# Altium footprint library inductor-nkl.PCBLIB: 59 footprints (part 3 of 4)
Each footprint in its own frame and in the unit in brackets; x right, y up, seen from the top. Pads: shape width x height; smd on the part's side, far side on the other; paste and mask are expansions set on the pad; w line width, h text height; cw(c..) or ccw(c..) is an arc to the next point about the centre after c.
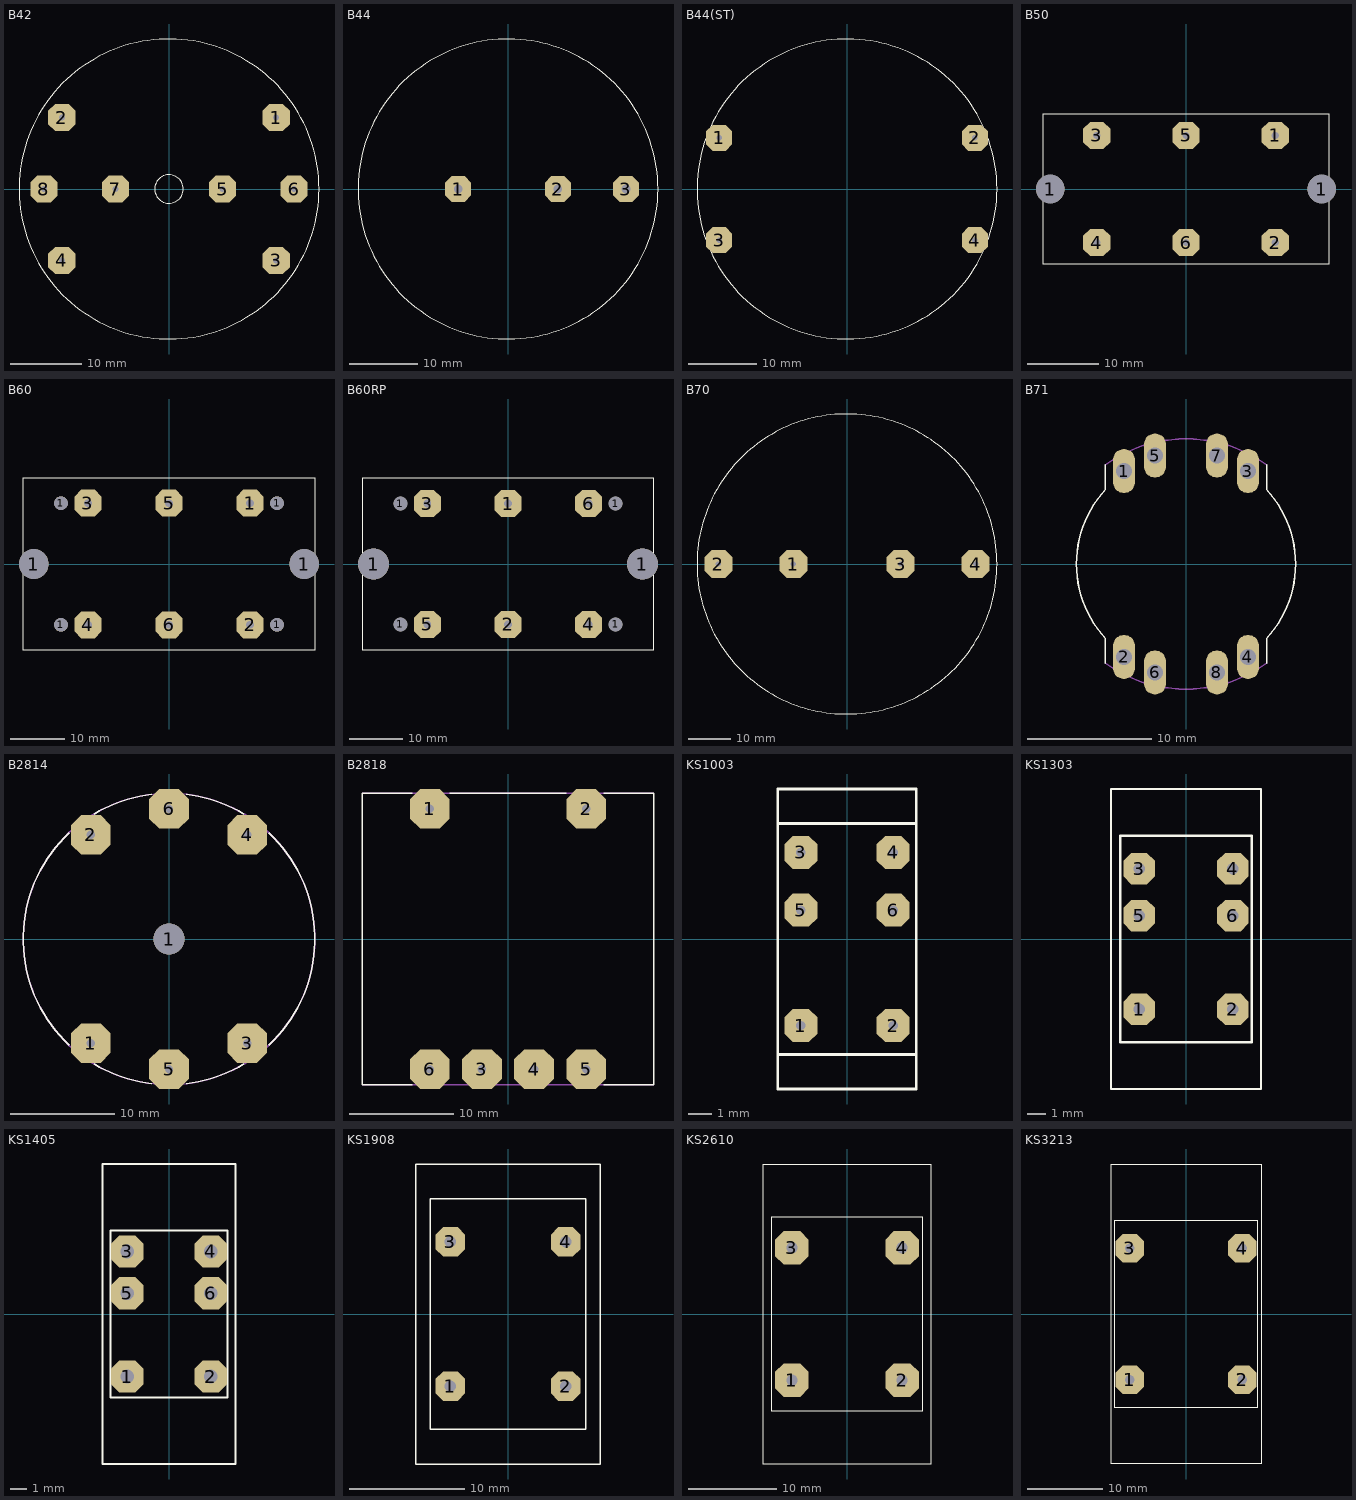
[diagram p2: the footprints below, top view; thin cyan lines are the x and y axes]

## B42 [mil]
pads (8):
  oct 150x150 hole 32: 1(590.55,393.7) 2(-590.55,393.7) 3(590.55,-393.7) 4(-590.55,-393.7) 5(295.28,0) 6(688.98,0) 7(-295.28,0) 8(-688.98,0)
Top Overlay:
  circle w5: c0,0 r826.77
  circle w5: c0,0 r78.74

## B44 [mil]
pads (3):
  oct 150x150 hole 50: 1(-287.4,0) 2(287.4,0) 3(681.1,0)
Top Overlay:
  circle w5: c0,0 r866.14

## B44(ST) [mil]
pads (4):
  oct 150x150 hole 32: 1(-738.19,295.28) 2(738.19,295.28) 3(-738.19,-295.28) 4(738.19,-295.28)
Top Overlay:
  circle w5: c0,0 r866.14

## B50 [mil]
pads (8):
  round 157.48 hole 157.48: 1(-748.03,0) 1(748.03,0)
  oct 150x150 hole 40: 1(492.13,295.28) 2(492.13,-295.28) 3(-492.13,295.28) 4(-492.13,-295.28) 5(0,295.28) 6(0,-295.28)
Top Overlay:
  lines w5: -787.4,-413.39 787.4,-413.39 787.4,413.39 -787.4,413.39 -787.4,-413.39

## B60 [mm]
pads (12):
  round 5.5 hole 5.5: 1(-25,0) 1(25,0)
  round 2.54 hole 2.54: 1(-20,-11.25) 1(-20,11.25) 1(20,-11.25) 1(20,11.25)
  oct 5x5 hole 1.422: 1(15,11.25) 2(15,-11.25) 3(-15,11.25) 4(-15,-11.25) 5(0,11.25) 6(0,-11.25)
Top Overlay:
  lines w0.127: -27,-16 27,-16 27,16 -27,16 -27,-16

## B60RP [mm]
pads (12):
  round 5.8 hole 5.8: 1(-25,0) 1(25,0)
  round 2.54 hole 2.54: 1(-20,-11.25) 1(-20,11.25) 1(20,-11.25) 1(20,11.25)
  oct 5x5 hole 1.422: 1(0,11.25) 2(0,-11.25) 3(-15,11.25) 4(15,-11.25) 5(-15,-11.25) 6(15,11.25)
Top Overlay:
  lines w0.127: -27,-16 27,-16 27,16 -27,16 -27,-16

## B70 [mil]
pads (4):
  oct 254x254 hole 50: 1(-492.13,0) 2(-1181.1,0) 3(492.13,0) 4(1181.1,0)
Top Overlay:
  circle w5: c0,0 r1377.95

## B71 [mil]
pads (8):
  oval 70x140 hole 50: 1(-196.85,295.28) 2(-196.85,-295.28) 3(196.85,295.28) 4(196.85,-295.28) 5(-98.43,344.49) 6(-98.43,-344.49) 7(98.43,344.49) 8(98.43,-344.49)
Top Overlay:
  lines w5: -255.91,-314.96 -255.91,-236.22 cw(c-0.01,0) -255.91,236.22 -255.91,314.96 ; 255.91,-314.96 255.91,-236.22 ccw(c0.01,0) 255.91,236.22 255.91,314.96
Mechanical 16:
  lines w5: -255.91,-314.96 ccw(c0,39.38) 255.91,-314.96 ; -255.91,314.96 cw(c0,-39.38) 255.91,314.96

## B2814 [mil]
pads (7):
  oct 150x150 hole 32: 1(-295.28,-393.7) 2(-295.28,393.7) 3(295.28,-393.7) 4(295.28,393.7) 5(0,-492.13) 6(0,492.13)
  round 118.11 hole 118.11: 1(0,0)
Top Overlay:
  lines w5: -377.95,-401.57 cw(c0,0) -377.95,401.57 ; -283.46,-472.44 ccw(c0.32,-0.01) -64.96,-547.24 ; -283.46,472.44 cw(c0.32,0.01) -64.96,547.24 ; 64.96,-547.24 ccw(c-0.32,-0.01) 283.46,-472.44 ; 64.96,547.24 cw(c-0.32,0.01) 283.46,472.44 ; 377.95,-401.57 ccw(c0,0) 377.95,401.57
Mechanical 16:
  circle w5: c0,0 r551.18

## B2818 [mil]
pads (6):
  oct 150x150 hole 32: 1(-295.28,492.13) 2(295.28,492.13) 3(-98.43,-492.13) 4(98.43,-492.13) 5(295.28,-492.13) 6(-295.28,-492.13)
Top Overlay:
  lines w5: -362.2,-551.18 -551.18,-551.18 -551.18,551.18 -362.2,551.18 ; -220.47,551.18 220.47,551.18 ; 362.2,-551.18 551.18,-551.18 551.18,551.18 362.2,551.18
Mechanical 16:
  lines w5: -551.18,-551.18 551.18,-551.18 ; -551.18,551.18 551.18,551.18

## KS1003 [mil]
pads (6):
  oct 56x56 hole 16: 1(-78.74,-147.64) 2(78.74,-147.64) 3(-78.74,147.64) 4(78.74,147.64) 5(-78.74,49.21) 6(78.74,49.21)
Top Overlay:
  lines w5: -118.11,-196.85 -118.11,196.85 118.11,196.85 118.11,-196.85 ; -118.11,-196.85 118.11,-196.85 ; -118.11,-196.85 -118.11,255.91 118.11,255.91 118.11,-196.85 ; -118.11,-196.85 -118.11,-255.91 118.11,-255.91 118.11,-196.85

## KS1303 [mil]
pads (6):
  oct 66x66 hole 24: 1(-98.43,-147.64) 2(98.43,-147.64) 3(-98.43,147.64) 4(98.43,147.64) 5(-98.43,49.21) 6(98.43,49.21)
Top Overlay:
  lines w5: -157.48,-314.96 -157.48,314.96 157.48,314.96 157.48,-314.96 -157.48,-314.96 ; -137.8,-216.54 -137.8,216.54 137.8,216.54 137.8,-216.54 -137.8,-216.54

## KS1405 [mil]
pads (6):
  oct 76x76 hole 32: 1(-98.43,-147.64) 2(98.43,-147.64) 3(-98.43,147.64) 4(98.43,147.64) 5(-98.43,49.21) 6(98.43,49.21)
Top Overlay:
  lines w5: -157.48,-354.33 157.48,-354.33 157.48,354.33 -157.48,354.33 -157.48,-354.33 ; -137.8,-196.85 137.8,-196.85 137.8,196.85 -137.8,196.85 -137.8,-196.85

## KS1908 [mil]
pads (4):
  oct 100x100 hole 40: 1(-196.85,-246.06) 2(196.85,-246.06) 3(-196.85,246.06) 4(196.85,246.06)
Top Overlay:
  lines w5: -314.96,-511.81 -314.96,511.81 314.96,511.81 314.96,-511.81 -314.96,-511.81 ; -265.75,-393.7 -265.75,393.7 265.75,393.7 265.75,-393.7 -265.75,-393.7

## KS2610 [mil]
pads (4):
  oct 150x150 hole 50: 1(-246.06,-295.28) 2(246.06,-295.28) 3(-246.06,295.28) 4(246.06,295.28)
Top Overlay:
  lines w5: -374.02,-669.29 -374.02,669.29 374.02,669.29 374.02,-669.29 -374.02,-669.29 ; -334.65,-433.07 -334.65,433.07 334.65,433.07 334.65,-433.07 -334.65,-433.07

## KS3213 [mil]
pads (4):
  oct 150x150 hole 50: 1(-295.28,-344.49) 2(295.28,-344.49) 3(-295.28,344.49) 4(295.28,344.49)
Top Overlay:
  lines w5: -393.7,-787.4 -393.7,787.4 393.7,787.4 393.7,-787.4 -393.7,-787.4 ; -374.02,-492.13 -374.02,492.13 374.02,492.13 374.02,-492.13 -374.02,-492.13